# EAGLE library part DA06 (library innove-dip-switches)
DIL/CODE SWITCH
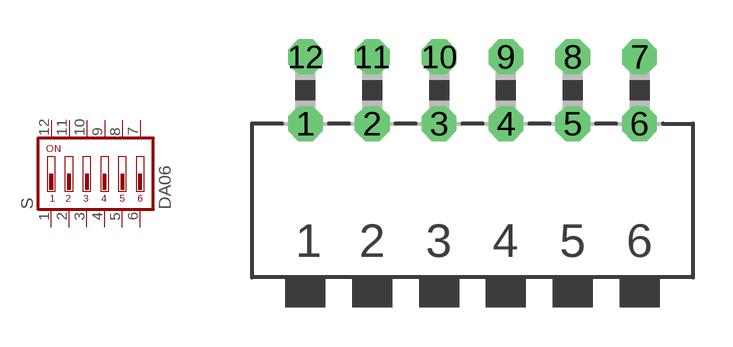
[diagram p21: symbol with the pads of DA-06; footprint DA-06]

Designator prefix S

## DA06 (MPN: MCDA06; OC_FARNELL: 9471553; OC_NEWARK: 26M1091)  [DA-06]
1  1  pas
2  2  pas
3  3  pas
4  4  pas
5  5  pas
6  6  pas
7  7  pas
8  8  pas
9  9  pas
10  10  pas
11  11  pas
12  12  pas

## Footprint DA-06 (pad centres in mm)
DIL/CODE SWITCH Mors distributor Buerklin, 17G588
drill 0.813 octagon: 1 -6.35,-1.27; 2 -3.81,-1.27; 3 -1.27,-1.27; 4 1.27,-1.27; 5 3.81,-1.27; 6 6.35,-1.27; 7 6.35,1.27; 8 3.81,1.27; 9 1.27,1.27; 10 -1.27,1.27; 11 -3.81,1.27; 12 -6.35,1.27